# Altium integrated library Linear Technology Comparators.IntLib: 630 symbols (part 22 of 24)
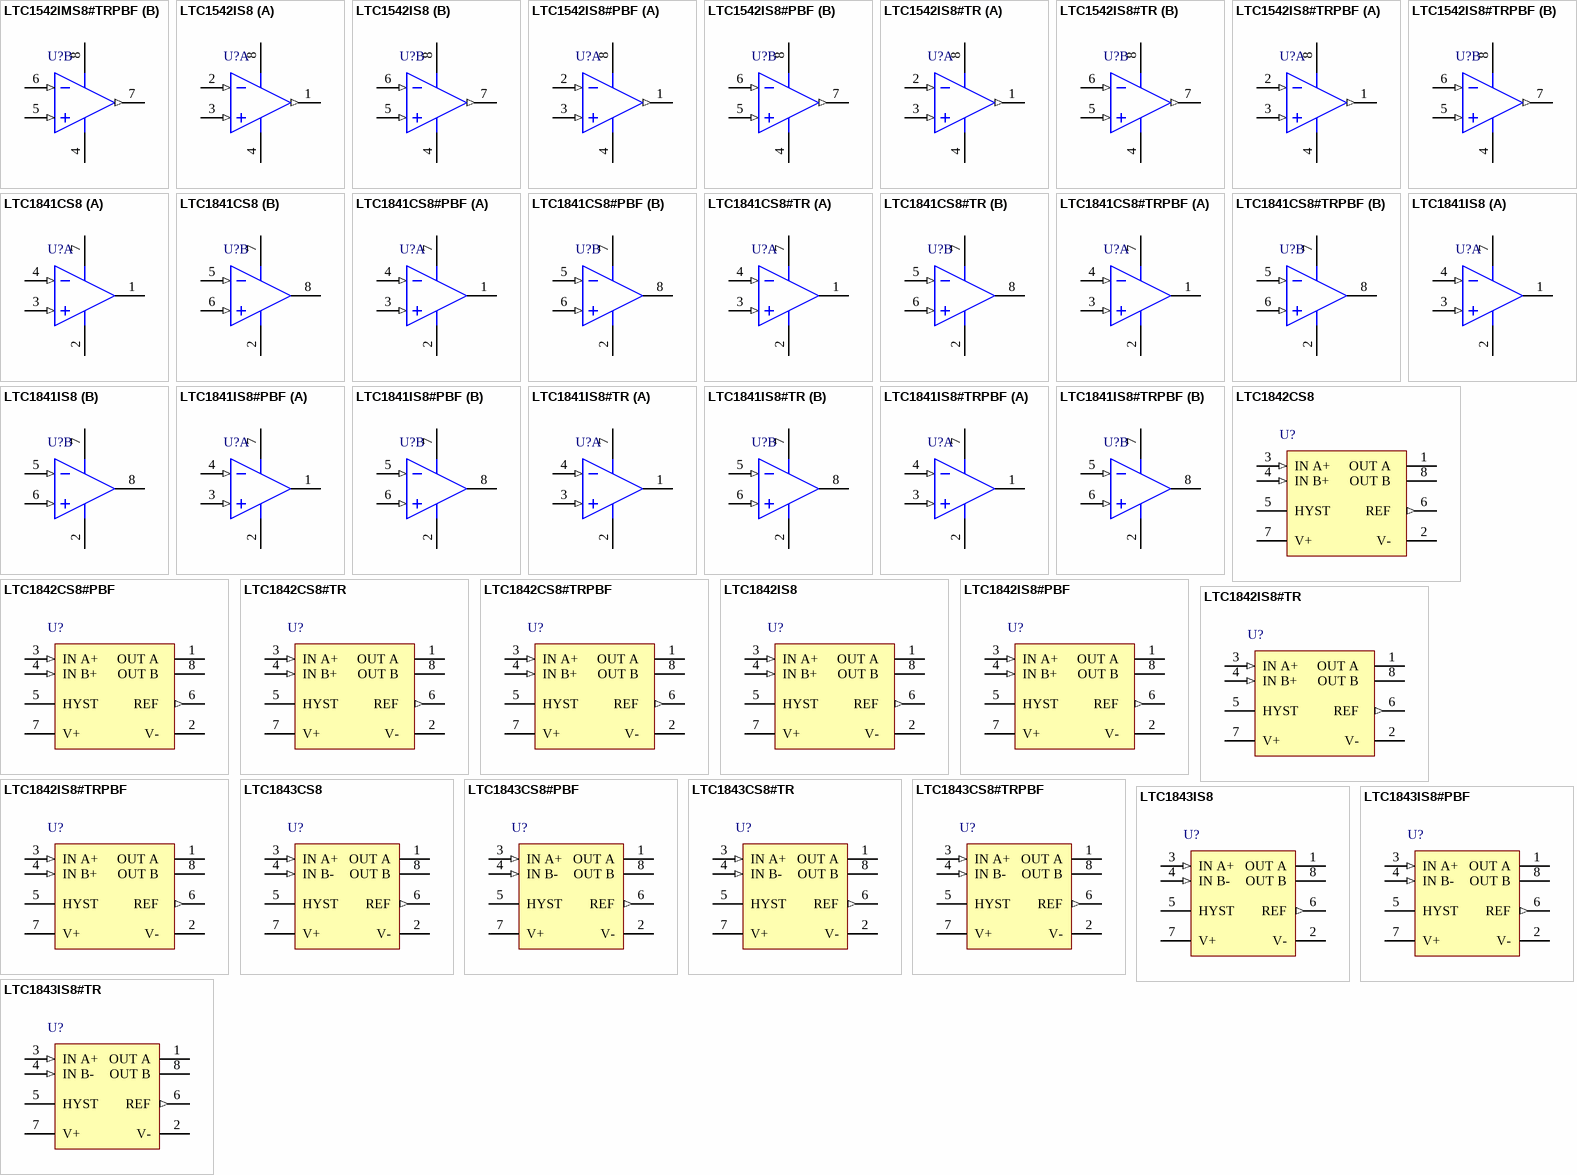
[diagram p45: symbols LTC1542IMS8#TRPBF to LTC1843IS8#TR]

## LTC1841CS8
designator U?
Ultralow Power Comparator with Reference, 2 Channels, 2 to 11 V, 0 to +70 degC, 8-pin SOP (S8); Generic Part Number: LTC1841; Manufacturer: Linear Technology; PartNumber: LTC1841CS8; Channels (#): 2; Prop Delay (us): 4; Supply Current (uA) Typical: 5.7; Supply Voltage Range: 2 to 11 V; Vos (mV) Guaranteed: 10; Vos (mV) Typical: 3; Vs Max (V): 12.6; Vs Min (V): 2.5; PackageReference: S8; PackageDescription: 8-Pin Plastic Small Outline (Narrow .150 Inch), Body 4.9 x 3.9 mm, Pitch 1.27 mm; Supplier 1: Digi-Key; Supplier Part Number 1: LTC1841CS8-ND; Features: Comparator; RoHS: N; Mounting Technology: Surface Mount; ComponentLink1Description: Manufacturer URL; ComponentLink1URL: http://www.linear.com/; ComponentLink2Description: Datasheet; ComponentLink2URL: http://cds.linear.com/docs/en/datasheet/184123f.pdf; ComponentLink3Description: Package Specification; ComponentLink3URL: http://cds.linear.com/docs/en/packaging/05081610_G_SO8.pdf
footprint LT-S8_N (SOP, 8-Leads, Body 4.9x3.9mm, Pitch 1.27mm, IPC Medium Density)
footprint LT-S8_L (SOP, 8-Leads, Body 4.9x3.9mm, Pitch 1.27mm, IPC High Density)
footprint LT-S8_M (SOP, 8-Leads, Body 4.9x3.9mm, Pitch 1.27mm, IPC Low Density)
pins on every part: 2 V- (power) "Negative Supply.", 7 V+ (power) "Positive Supply. 2V to 11V."
part A pins: 1 OUT A (oc) "Comparator A Open-Drain Output. Output can typically sink greater than 20mA.", 3 IN A+ (in) "Noninverting Input of Comparator A. Input common mode range extends from V - to V + - 1.3V. Input current is typically 10pA at 25degreesC.", 4 IN A- (in) "Inverting Input of Comparator A. Input common mode range extends from V - to V + - 1.3V. Input current is typically 10pA at 25degreesC."
part B pins: 5 IN B- (in) "Noninverting Input of Comparator B. Input common mode range extends from V - to V+ - 1.3V. Input current is typically 10pA at 25degreesC.", 6 IN B+ (in) "Inverting Input of Comparator B. Input common mode range extends from V - to V+ - 1.3V. Input current is typically 10pA at 25degreesC.", 8 OUT B (oc) "Comparator B Open-Drain Output. Output can typically sink greater than 20mA."

## LTC1841CS8#PBF
designator U?
Ultralow Power Comparator with Reference, 2 Channels, 2 to 11 V, 0 to +70 degC, 8-pin SOP (S8); Generic Part Number: LTC1841; Manufacturer: Linear Technology; PartNumber: LTC1841CS8#PBF; Channels (#): 2; Prop Delay (us): 4; Supply Current (uA) Typical: 5.7; Supply Voltage Range: 2 to 11 V; Vos (mV) Guaranteed: 10; Vos (mV) Typical: 3; Vs Max (V): 12.6; Vs Min (V): 2.5; PackageReference: S8; PackageDescription: 8-Pin Plastic Small Outline (Narrow .150 Inch), Body 4.9 x 3.9 mm, Pitch 1.27 mm; Supplier 1: Digi-Key; Supplier Part Number 1: LTC1841CS8#PBF-ND; Supplier 2: Newark; Supplier Part Number 2: 56M3882; Features: Comparator; RoHS: Y; Mounting Technology: Surface Mount; ComponentLink1Description: Manufacturer URL; ComponentLink1URL: http://www.linear.com/; ComponentLink2Description: Datasheet; ComponentLink2URL: http://cds.linear.com/docs/en/datasheet/184123f.pdf; ComponentLink3Description: Package Specification; ComponentLink3URL: http://cds.linear.com/docs/en/packaging/05081610_G_SO8.pdf
footprint LT-S8_N (SOP, 8-Leads, Body 4.9x3.9mm, Pitch 1.27mm, IPC Medium Density)
footprint LT-S8_L (SOP, 8-Leads, Body 4.9x3.9mm, Pitch 1.27mm, IPC High Density)
footprint LT-S8_M (SOP, 8-Leads, Body 4.9x3.9mm, Pitch 1.27mm, IPC Low Density)
pins on every part: 2 V- (power) "Negative Supply.", 7 V+ (power) "Positive Supply. 2V to 11V."
part A pins: 1 OUT A (oc) "Comparator A Open-Drain Output. Output can typically sink greater than 20mA.", 3 IN A+ (in) "Noninverting Input of Comparator A. Input common mode range extends from V - to V + - 1.3V. Input current is typically 10pA at 25degreesC.", 4 IN A- (in) "Inverting Input of Comparator A. Input common mode range extends from V - to V + - 1.3V. Input current is typically 10pA at 25degreesC."
part B pins: 5 IN B- (in) "Noninverting Input of Comparator B. Input common mode range extends from V - to V+ - 1.3V. Input current is typically 10pA at 25degreesC.", 6 IN B+ (in) "Inverting Input of Comparator B. Input common mode range extends from V - to V+ - 1.3V. Input current is typically 10pA at 25degreesC.", 8 OUT B (oc) "Comparator B Open-Drain Output. Output can typically sink greater than 20mA."

## LTC1841CS8#TR
designator U?
Ultralow Power Comparator with Reference, 2 Channels, 2 to 11 V, 0 to +70 degC, 8-pin SOP (S8), Tape and Reel; Generic Part Number: LTC1841; Manufacturer: Linear Technology; PartNumber: LTC1841CS8#TR; Channels (#): 2; Prop Delay (us): 4; Supply Current (uA) Typical: 5.7; Supply Voltage Range: 2 to 11 V; Vos (mV) Guaranteed: 10; Vos (mV) Typical: 3; Vs Max (V): 12.6; Vs Min (V): 2.5; PackageReference: S8; PackageDescription: 8-Pin Plastic Small Outline (Narrow .150 Inch), Body 4.9 x 3.9 mm, Pitch 1.27 mm; Supplier 1: Digi-Key; Supplier Part Number 1: LTC1841CS8#TR-ND; Features: Comparator; RoHS: N; Mounting Technology: Surface Mount; ComponentLink1Description: Manufacturer URL; ComponentLink1URL: http://www.linear.com/; ComponentLink2Description: Datasheet; ComponentLink2URL: http://cds.linear.com/docs/en/datasheet/184123f.pdf; ComponentLink3Description: Package Specification; ComponentLink3URL: http://cds.linear.com/docs/en/packaging/05081610_G_SO8.pdf
footprint LT-S8_N (SOP, 8-Leads, Body 4.9x3.9mm, Pitch 1.27mm, IPC Medium Density)
footprint LT-S8_L (SOP, 8-Leads, Body 4.9x3.9mm, Pitch 1.27mm, IPC High Density)
footprint LT-S8_M (SOP, 8-Leads, Body 4.9x3.9mm, Pitch 1.27mm, IPC Low Density)
pins on every part: 2 V- (power) "Negative Supply.", 7 V+ (power) "Positive Supply. 2V to 11V."
part A pins: 1 OUT A (oc) "Comparator A Open-Drain Output. Output can typically sink greater than 20mA.", 3 IN A+ (in) "Noninverting Input of Comparator A. Input common mode range extends from V - to V + - 1.3V. Input current is typically 10pA at 25degreesC.", 4 IN A- (in) "Inverting Input of Comparator A. Input common mode range extends from V - to V + - 1.3V. Input current is typically 10pA at 25degreesC."
part B pins: 5 IN B- (in) "Noninverting Input of Comparator B. Input common mode range extends from V - to V+ - 1.3V. Input current is typically 10pA at 25degreesC.", 6 IN B+ (in) "Inverting Input of Comparator B. Input common mode range extends from V - to V+ - 1.3V. Input current is typically 10pA at 25degreesC.", 8 OUT B (oc) "Comparator B Open-Drain Output. Output can typically sink greater than 20mA."

## LTC1841CS8#TRPBF
designator U?
Ultralow Power Comparator with Reference, 2 Channels, 2 to 11 V, 0 to +70 degC, 8-pin SOP (S8), Tape and Reel; Generic Part Number: LTC1841; Manufacturer: Linear Technology; PartNumber: LTC1841CS8#TRPBF; Channels (#): 2; Prop Delay (us): 4; Supply Current (uA) Typical: 5.7; Supply Voltage Range: 2 to 11 V; Vos (mV) Guaranteed: 10; Vos (mV) Typical: 3; Vs Max (V): 12.6; Vs Min (V): 2.5; PackageReference: S8; PackageDescription: 8-Pin Plastic Small Outline (Narrow .150 Inch), Body 4.9 x 3.9 mm, Pitch 1.27 mm; Supplier 1: Digi-Key; Supplier Part Number 1: LTC1841CS8#TRPBF-ND; Supplier 2: Newark; Supplier Part Number 2: 56M3884; Features: Comparator; RoHS: Y; Mounting Technology: Surface Mount; ComponentLink1Description: Manufacturer URL; ComponentLink1URL: http://www.linear.com/; ComponentLink2Description: Datasheet; ComponentLink2URL: http://cds.linear.com/docs/en/datasheet/184123f.pdf; ComponentLink3Description: Package Specification; ComponentLink3URL: http://cds.linear.com/docs/en/packaging/05081610_G_SO8.pdf
footprint LT-S8_N (SOP, 8-Leads, Body 4.9x3.9mm, Pitch 1.27mm, IPC Medium Density)
footprint LT-S8_L (SOP, 8-Leads, Body 4.9x3.9mm, Pitch 1.27mm, IPC High Density)
footprint LT-S8_M (SOP, 8-Leads, Body 4.9x3.9mm, Pitch 1.27mm, IPC Low Density)
pins on every part: 2 V- (power) "Negative Supply.", 7 V+ (power) "Positive Supply. 2V to 11V."
part A pins: 1 OUT A (oc) "Comparator A Open-Drain Output. Output can typically sink greater than 20mA.", 3 IN A+ (in) "Noninverting Input of Comparator A. Input common mode range extends from V - to V + - 1.3V. Input current is typically 10pA at 25degreesC.", 4 IN A- (in) "Inverting Input of Comparator A. Input common mode range extends from V - to V + - 1.3V. Input current is typically 10pA at 25degreesC."
part B pins: 5 IN B- (in) "Noninverting Input of Comparator B. Input common mode range extends from V - to V+ - 1.3V. Input current is typically 10pA at 25degreesC.", 6 IN B+ (in) "Inverting Input of Comparator B. Input common mode range extends from V - to V+ - 1.3V. Input current is typically 10pA at 25degreesC.", 8 OUT B (oc) "Comparator B Open-Drain Output. Output can typically sink greater than 20mA."

## LTC1841IS8
designator U?
Ultralow Power Comparator with Reference, 2 Channels, 2 to 11 V, -40 to +85 degC, 8-pin SOP (S8); Generic Part Number: LTC1841; Manufacturer: Linear Technology; PartNumber: LTC1841IS8; Channels (#): 2; Prop Delay (us): 4; Supply Current (uA) Guaranteed: 5.7; Supply Current (uA) Typical: 3.5; Supply Voltage Range: 2 to 11 V; Vos (mV) Guaranteed: 10; Vos (mV) Typical: 3; Vs Max (V): 12.6; Vs Min (V): 2.5; PackageReference: S8; PackageDescription: 8-Pin Plastic Small Outline (Narrow .150 Inch), Body 4.9 x 3.9 mm, Pitch 1.27 mm; Supplier 1: Digi-Key; Supplier Part Number 1: LTC1841IS8-ND; Features: Comparator; RoHS: N; Mounting Technology: Surface Mount; ComponentLink1Description: Manufacturer URL; ComponentLink1URL: http://www.linear.com/; ComponentLink2Description: Datasheet; ComponentLink2URL: http://cds.linear.com/docs/en/datasheet/184123f.pdf; ComponentLink3Description: Package Specification; ComponentLink3URL: http://cds.linear.com/docs/en/packaging/05081610_G_SO8.pdf
footprint LT-S8_N (SOP, 8-Leads, Body 4.9x3.9mm, Pitch 1.27mm, IPC Medium Density)
footprint LT-S8_L (SOP, 8-Leads, Body 4.9x3.9mm, Pitch 1.27mm, IPC High Density)
footprint LT-S8_M (SOP, 8-Leads, Body 4.9x3.9mm, Pitch 1.27mm, IPC Low Density)
pins on every part: 2 V- (power) "Negative Supply.", 7 V+ (power) "Positive Supply. 2V to 11V."
part A pins: 1 OUT A (oc) "Comparator A Open-Drain Output. Output can typically sink greater than 20mA.", 3 IN A+ (in) "Noninverting Input of Comparator A. Input common mode range extends from V - to V + - 1.3V. Input current is typically 10pA at 25degreesC.", 4 IN A- (in) "Inverting Input of Comparator A. Input common mode range extends from V - to V + - 1.3V. Input current is typically 10pA at 25degreesC."
part B pins: 5 IN B- (in) "Noninverting Input of Comparator B. Input common mode range extends from V - to V+ - 1.3V. Input current is typically 10pA at 25degreesC.", 6 IN B+ (in) "Inverting Input of Comparator B. Input common mode range extends from V - to V+ - 1.3V. Input current is typically 10pA at 25degreesC.", 8 OUT B (oc) "Comparator B Open-Drain Output. Output can typically sink greater than 20mA."

## LTC1841IS8#PBF
designator U?
Ultralow Power Comparator with Reference, 2 Channels, 2 to 11 V, -40 to +85 degC, 8-pin SOP (S8); Generic Part Number: LTC1841; Manufacturer: Linear Technology; PartNumber: LTC1841IS8#PBF; Channels (#): 2; Prop Delay (us): 4; Supply Current (uA) Guaranteed: 5.7; Supply Current (uA) Typical: 3.5; Supply Voltage Range: 2 to 11 V; Vos (mV) Guaranteed: 10; Vos (mV) Typical: 3; Vs Max (V): 12.6; Vs Min (V): 2.5; PackageReference: S8; PackageDescription: 8-Pin Plastic Small Outline (Narrow .150 Inch), Body 4.9 x 3.9 mm, Pitch 1.27 mm; Supplier 1: Digi-Key; Supplier Part Number 1: LTC1841IS8#PBF-ND; Supplier 2: Newark; Supplier Part Number 2: 56M3886; Features: Comparator; RoHS: Y; Mounting Technology: Surface Mount; ComponentLink1Description: Manufacturer URL; ComponentLink1URL: http://www.linear.com/; ComponentLink2Description: Datasheet; ComponentLink2URL: http://cds.linear.com/docs/en/datasheet/184123f.pdf; ComponentLink3Description: Package Specification; ComponentLink3URL: http://cds.linear.com/docs/en/packaging/05081610_G_SO8.pdf
footprint LT-S8_N (SOP, 8-Leads, Body 4.9x3.9mm, Pitch 1.27mm, IPC Medium Density)
footprint LT-S8_L (SOP, 8-Leads, Body 4.9x3.9mm, Pitch 1.27mm, IPC High Density)
footprint LT-S8_M (SOP, 8-Leads, Body 4.9x3.9mm, Pitch 1.27mm, IPC Low Density)
pins on every part: 2 V- (power) "Negative Supply.", 7 V+ (power) "Positive Supply. 2V to 11V."
part A pins: 1 OUT A (oc) "Comparator A Open-Drain Output. Output can typically sink greater than 20mA.", 3 IN A+ (in) "Noninverting Input of Comparator A. Input common mode range extends from V - to V + - 1.3V. Input current is typically 10pA at 25degreesC.", 4 IN A- (in) "Inverting Input of Comparator A. Input common mode range extends from V - to V + - 1.3V. Input current is typically 10pA at 25degreesC."
part B pins: 5 IN B- (in) "Noninverting Input of Comparator B. Input common mode range extends from V - to V+ - 1.3V. Input current is typically 10pA at 25degreesC.", 6 IN B+ (in) "Inverting Input of Comparator B. Input common mode range extends from V - to V+ - 1.3V. Input current is typically 10pA at 25degreesC.", 8 OUT B (oc) "Comparator B Open-Drain Output. Output can typically sink greater than 20mA."

## LTC1841IS8#TR
designator U?
Ultralow Power Comparator with Reference, 2 Channels, 2 to 11 V, -40 to +85 degC, 8-pin SOP (S8), Tape and Reel; Generic Part Number: LTC1841; Manufacturer: Linear Technology; PartNumber: LTC1841IS8#TR; Channels (#): 2; Prop Delay (us): 4; Supply Current (uA) Guaranteed: 5.7; Supply Current (uA) Typical: 3.5; Supply Voltage Range: 2 to 11 V; Vos (mV) Guaranteed: 10; Vos (mV) Typical: 3; Vs Max (V): 12.6; Vs Min (V): 2.5; PackageReference: S8; PackageDescription: 8-Pin Plastic Small Outline (Narrow .150 Inch), Body 4.9 x 3.9 mm, Pitch 1.27 mm; Supplier 1: Digi-Key; Supplier Part Number 1: LTC1841IS8#TR-ND; Features: Comparator; RoHS: N; Mounting Technology: Surface Mount; ComponentLink1Description: Manufacturer URL; ComponentLink1URL: http://www.linear.com/; ComponentLink2Description: Datasheet; ComponentLink2URL: http://cds.linear.com/docs/en/datasheet/184123f.pdf; ComponentLink3Description: Package Specification; ComponentLink3URL: http://cds.linear.com/docs/en/packaging/05081610_G_SO8.pdf
footprint LT-S8_N (SOP, 8-Leads, Body 4.9x3.9mm, Pitch 1.27mm, IPC Medium Density)
footprint LT-S8_L (SOP, 8-Leads, Body 4.9x3.9mm, Pitch 1.27mm, IPC High Density)
footprint LT-S8_M (SOP, 8-Leads, Body 4.9x3.9mm, Pitch 1.27mm, IPC Low Density)
pins on every part: 2 V- (power) "Negative Supply.", 7 V+ (power) "Positive Supply. 2V to 11V."
part A pins: 1 OUT A (oc) "Comparator A Open-Drain Output. Output can typically sink greater than 20mA.", 3 IN A+ (in) "Noninverting Input of Comparator A. Input common mode range extends from V - to V + - 1.3V. Input current is typically 10pA at 25degreesC.", 4 IN A- (in) "Inverting Input of Comparator A. Input common mode range extends from V - to V + - 1.3V. Input current is typically 10pA at 25degreesC."
part B pins: 5 IN B- (in) "Noninverting Input of Comparator B. Input common mode range extends from V - to V+ - 1.3V. Input current is typically 10pA at 25degreesC.", 6 IN B+ (in) "Inverting Input of Comparator B. Input common mode range extends from V - to V+ - 1.3V. Input current is typically 10pA at 25degreesC.", 8 OUT B (oc) "Comparator B Open-Drain Output. Output can typically sink greater than 20mA."

## LTC1841IS8#TRPBF
designator U?
Ultralow Power Comparator with Reference, 2 Channels, 2 to 11 V, -40 to +85 degC, 8-pin SOP (S8), Tape and Reel; Generic Part Number: LTC1841; Manufacturer: Linear Technology; PartNumber: LTC1841IS8#TRPBF; Channels (#): 2; Prop Delay (us): 4; Supply Current (uA) Guaranteed: 5.7; Supply Current (uA) Typical: 3.5; Supply Voltage Range: 2 to 11 V; Vos (mV) Guaranteed: 10; Vos (mV) Typical: 3; Vs Max (V): 12.6; Vs Min (V): 2.5; PackageReference: S8; PackageDescription: 8-Pin Plastic Small Outline (Narrow .150 Inch), Body 4.9 x 3.9 mm, Pitch 1.27 mm; Supplier 1: Digi-Key; Supplier Part Number 1: LTC1841IS8#TRPBF-ND; Supplier 2: Newark; Supplier Part Number 2: 56M3888; Features: Comparator; RoHS: Y; Mounting Technology: Surface Mount; ComponentLink1Description: Manufacturer URL; ComponentLink1URL: http://www.linear.com/; ComponentLink2Description: Datasheet; ComponentLink2URL: http://cds.linear.com/docs/en/datasheet/184123f.pdf; ComponentLink3Description: Package Specification; ComponentLink3URL: http://cds.linear.com/docs/en/packaging/05081610_G_SO8.pdf
footprint LT-S8_N (SOP, 8-Leads, Body 4.9x3.9mm, Pitch 1.27mm, IPC Medium Density)
footprint LT-S8_L (SOP, 8-Leads, Body 4.9x3.9mm, Pitch 1.27mm, IPC High Density)
footprint LT-S8_M (SOP, 8-Leads, Body 4.9x3.9mm, Pitch 1.27mm, IPC Low Density)
pins on every part: 2 V- (power) "Negative Supply.", 7 V+ (power) "Positive Supply. 2V to 11V."
part A pins: 1 OUT A (oc) "Comparator A Open-Drain Output. Output can typically sink greater than 20mA.", 3 IN A+ (in) "Noninverting Input of Comparator A. Input common mode range extends from V - to V + - 1.3V. Input current is typically 10pA at 25degreesC.", 4 IN A- (in) "Inverting Input of Comparator A. Input common mode range extends from V - to V + - 1.3V. Input current is typically 10pA at 25degreesC."
part B pins: 5 IN B- (in) "Noninverting Input of Comparator B. Input common mode range extends from V - to V+ - 1.3V. Input current is typically 10pA at 25degreesC.", 6 IN B+ (in) "Inverting Input of Comparator B. Input common mode range extends from V - to V+ - 1.3V. Input current is typically 10pA at 25degreesC.", 8 OUT B (oc) "Comparator B Open-Drain Output. Output can typically sink greater than 20mA."

## LTC1842CS8
designator U?
Ultralow Power Comparator with Reference, 2 Channels, 2.5 to 11 V, 0 to +70 degC, 8-pin SOP (S8); Generic Part Number: LTC1842; Manufacturer: Linear Technology; PartNumber: LTC1842CS8; Channels (#): 2; Prop Delay (us): 4; Supply Current (uA) Guaranteed: 5.7; Supply Current (uA) Typical: 3.5; Vos (mV) Guaranteed: 10; Vos (mV) Typical: 3; Vs Max (V): 11; PackageReference: S8; PackageDescription: 8-Pin Plastic Small Outline (Narrow .150 Inch), Body 4.9 x 3.9 mm, Pitch 1.27 mm; Supplier 1: Digi-Key; Supplier Part Number 1: LTC1842CS8-ND; Features: Reference, Comparator; RoHS: N; Supply Voltage Range: 2.5 to 11 V; Vs Min (V): 2; Mounting Technology: Surface Mount; ComponentLink1Description: Manufacturer URL; ComponentLink1URL: http://www.linear.com/; ComponentLink2Description: Datasheet; ComponentLink2URL: http://cds.linear.com/docs/en/datasheet/184123f.pdf; ComponentLink3Description: Package Specification; ComponentLink3URL: http://cds.linear.com/docs/en/packaging/05081610_G_SO8.pdf
footprint LT-S8_N (SOP, 8-Leads, Body 4.9x3.9mm, Pitch 1.27mm, IPC Medium Density)
footprint LT-S8_L (SOP, 8-Leads, Body 4.9x3.9mm, Pitch 1.27mm, IPC High Density)
footprint LT-S8_M (SOP, 8-Leads, Body 4.9x3.9mm, Pitch 1.27mm, IPC Low Density)
pins: 1 OUT A   (oc) "Comparator A Open-Drain Output. Output can typically sink greater than 20mA.", 2  V-   (power) "Negative Supply.", 3 IN A+   (in) "Noninverting Input of Comparator A. Input common mode range extends from V - to V + - 1.3V. Input current is typically 10pA at 25degreesC.", 4 IN B+   (in) "Noninverting Input of Comparator B. Input common mode range extends from V - to V+ - 1.3V. Input current is typically 10pA at 25degreesC.", 5 HYST   "Hysteresis Input. Connect to REF if not used. Input voltage range is from VREF to VREF - 50mV.", 6 REF   (out) "Reference Output. 1.182V with respect to V -. Can typically source greater than 1mA and sink 10mA at 25degreesC. Can drive 0.01mF bypass capacitor without oscillation.", 7 V+   (power) "Positive Supply. 2.5V to 11V.", 8 OUT B   (oc) "Comparator B Open-Drain Output. Output can typically sink greater than 20mA."

## LTC1842CS8#PBF
designator U?
Ultralow Power Comparator with Reference, 2 Channels, 2.5 to 11 V, 0 to +70 degC, 8-pin SOP (S8); Generic Part Number: LTC1842; Manufacturer: Linear Technology; PartNumber: LTC1842CS8#PBF; Channels (#): 2; Prop Delay (us): 4; Supply Current (uA) Guaranteed: 5.7; Supply Current (uA) Typical: 3.5; Vos (mV) Guaranteed: 10; Vos (mV) Typical: 3; Vs Max (V): 11; PackageReference: S8; PackageDescription: 8-Pin Plastic Small Outline (Narrow .150 Inch), Body 4.9 x 3.9 mm, Pitch 1.27 mm; Supplier 1: Digi-Key; Supplier Part Number 1: LTC1842CS8#PBF-ND; Supplier 2: Newark; Supplier Part Number 2: 56M3890; Features: Reference, Comparator; RoHS: Y; Supply Voltage Range: 2.5 to 11 V; Vs Min (V): 2; Mounting Technology: Surface Mount; ComponentLink1Description: Manufacturer URL; ComponentLink1URL: http://www.linear.com/; ComponentLink2Description: Datasheet; ComponentLink2URL: http://cds.linear.com/docs/en/datasheet/184123f.pdf; ComponentLink3Description: Package Specification; ComponentLink3URL: http://cds.linear.com/docs/en/packaging/05081610_G_SO8.pdf
footprint LT-S8_N (SOP, 8-Leads, Body 4.9x3.9mm, Pitch 1.27mm, IPC Medium Density)
footprint LT-S8_L (SOP, 8-Leads, Body 4.9x3.9mm, Pitch 1.27mm, IPC High Density)
footprint LT-S8_M (SOP, 8-Leads, Body 4.9x3.9mm, Pitch 1.27mm, IPC Low Density)
pins: 1 OUT A   (oc) "Comparator A Open-Drain Output. Output can typically sink greater than 20mA.", 2  V-   (power) "Negative Supply.", 3 IN A+   (in) "Noninverting Input of Comparator A. Input common mode range extends from V - to V + - 1.3V. Input current is typically 10pA at 25degreesC.", 4 IN B+   (in) "Noninverting Input of Comparator B. Input common mode range extends from V - to V+ - 1.3V. Input current is typically 10pA at 25degreesC.", 5 HYST   "Hysteresis Input. Connect to REF if not used. Input voltage range is from VREF to VREF - 50mV.", 6 REF   (out) "Reference Output. 1.182V with respect to V -. Can typically source greater than 1mA and sink 10mA at 25degreesC. Can drive 0.01mF bypass capacitor without oscillation.", 7 V+   (power) "Positive Supply. 2.5V to 11V.", 8 OUT B   (oc) "Comparator B Open-Drain Output. Output can typically sink greater than 20mA."

## LTC1842CS8#TR
designator U?
Ultralow Power Comparator with Reference, 2 Channels, 2.5 to 11 V, 0 to +70 degC, 8-pin SOP (S8), Tape and Reel; Generic Part Number: LTC1842; Manufacturer: Linear Technology; PartNumber: LTC1842CS8#TR; Channels (#): 2; Prop Delay (us): 4; Supply Current (uA) Guaranteed: 5.7; Supply Current (uA) Typical: 3.5; Vos (mV) Guaranteed: 10; Vos (mV) Typical: 3; Vs Max (V): 11; PackageReference: S8; PackageDescription: 8-Pin Plastic Small Outline (Narrow .150 Inch), Body 4.9 x 3.9 mm, Pitch 1.27 mm; Supplier 1: Digi-Key; Supplier Part Number 1: LTC1842CS8#TR-ND; Features: Reference, Comparator; RoHS: N; Supply Voltage Range: 2.5 to 11 V; Vs Min (V): 2; Mounting Technology: Surface Mount; ComponentLink1Description: Manufacturer URL; ComponentLink1URL: http://www.linear.com/; ComponentLink2Description: Datasheet; ComponentLink2URL: http://cds.linear.com/docs/en/datasheet/184123f.pdf; ComponentLink3Description: Package Specification; ComponentLink3URL: http://cds.linear.com/docs/en/packaging/05081610_G_SO8.pdf
footprint LT-S8_N (SOP, 8-Leads, Body 4.9x3.9mm, Pitch 1.27mm, IPC Medium Density)
footprint LT-S8_L (SOP, 8-Leads, Body 4.9x3.9mm, Pitch 1.27mm, IPC High Density)
footprint LT-S8_M (SOP, 8-Leads, Body 4.9x3.9mm, Pitch 1.27mm, IPC Low Density)
pins: 1 OUT A   (oc) "Comparator A Open-Drain Output. Output can typically sink greater than 20mA.", 2  V-   (power) "Negative Supply.", 3 IN A+   (in) "Noninverting Input of Comparator A. Input common mode range extends from V - to V + - 1.3V. Input current is typically 10pA at 25degreesC.", 4 IN B+   (in) "Noninverting Input of Comparator B. Input common mode range extends from V - to V+ - 1.3V. Input current is typically 10pA at 25degreesC.", 5 HYST   "Hysteresis Input. Connect to REF if not used. Input voltage range is from VREF to VREF - 50mV.", 6 REF   (out) "Reference Output. 1.182V with respect to V -. Can typically source greater than 1mA and sink 10mA at 25degreesC. Can drive 0.01mF bypass capacitor without oscillation.", 7 V+   (power) "Positive Supply. 2.5V to 11V.", 8 OUT B   (oc) "Comparator B Open-Drain Output. Output can typically sink greater than 20mA."

## LTC1842CS8#TRPBF
designator U?
Ultralow Power Comparator with Reference, 2 Channels, 2.5 to 11 V, 0 to +70 degC, 8-pin SOP (S8), Tape and Reel; Generic Part Number: LTC1842; Manufacturer: Linear Technology; PartNumber: LTC1842CS8#TRPBF; Channels (#): 2; Prop Delay (us): 4; Supply Current (uA) Guaranteed: 5.7; Supply Current (uA) Typical: 3.5; Vos (mV) Guaranteed: 10; Vos (mV) Typical: 3; Vs Max (V): 11; PackageReference: S8; PackageDescription: 8-Pin Plastic Small Outline (Narrow .150 Inch), Body 4.9 x 3.9 mm, Pitch 1.27 mm; Supplier 1: Digi-Key; Supplier Part Number 1: LTC1842CS8#TRPBF-ND; Features: Reference, Comparator; RoHS: Y; Supply Voltage Range: 2.5 to 11 V; Vs Min (V): 2; Mounting Technology: Surface Mount; ComponentLink1Description: Manufacturer URL; ComponentLink1URL: http://www.linear.com/; ComponentLink2Description: Datasheet; ComponentLink2URL: http://cds.linear.com/docs/en/datasheet/184123f.pdf; ComponentLink3Description: Package Specification; ComponentLink3URL: http://cds.linear.com/docs/en/packaging/05081610_G_SO8.pdf
footprint LT-S8_N (SOP, 8-Leads, Body 4.9x3.9mm, Pitch 1.27mm, IPC Medium Density)
footprint LT-S8_L (SOP, 8-Leads, Body 4.9x3.9mm, Pitch 1.27mm, IPC High Density)
footprint LT-S8_M (SOP, 8-Leads, Body 4.9x3.9mm, Pitch 1.27mm, IPC Low Density)
pins: 1 OUT A   (oc) "Comparator A Open-Drain Output. Output can typically sink greater than 20mA.", 2  V-   (power) "Negative Supply.", 3 IN A+   (in) "Noninverting Input of Comparator A. Input common mode range extends from V - to V + - 1.3V. Input current is typically 10pA at 25degreesC.", 4 IN B+   (in) "Noninverting Input of Comparator B. Input common mode range extends from V - to V+ - 1.3V. Input current is typically 10pA at 25degreesC.", 5 HYST   "Hysteresis Input. Connect to REF if not used. Input voltage range is from VREF to VREF - 50mV.", 6 REF   (out) "Reference Output. 1.182V with respect to V -. Can typically source greater than 1mA and sink 10mA at 25degreesC. Can drive 0.01mF bypass capacitor without oscillation.", 7 V+   (power) "Positive Supply. 2.5V to 11V.", 8 OUT B   (oc) "Comparator B Open-Drain Output. Output can typically sink greater than 20mA."

## LTC1842IS8
designator U?
Ultralow Power Comparator with Reference, 2 Channels, 2.5 to 11 V, -40 to +85 degC, 8-pin SOP (S8); Generic Part Number: LTC1842; Manufacturer: Linear Technology; PartNumber: LTC1842IS8; Channels (#): 2; Prop Delay (us): 4; Supply Current (uA) Guaranteed: 5.7; Supply Current (uA) Typical: 3.5; Vos (mV) Guaranteed: 10; Vos (mV) Typical: 3; Vs Max (V): 11; PackageReference: S8; PackageDescription: 8-Pin Plastic Small Outline (Narrow .150 Inch), Body 4.9 x 3.9 mm, Pitch 1.27 mm; Supplier 1: Digi-Key; Supplier Part Number 1: LTC1842IS8-ND; Features: Reference, Comparator; RoHS: N; Supply Voltage Range: 2.5 to 11 V; Vs Min (V): 2; Mounting Technology: Surface Mount; ComponentLink1Description: Manufacturer URL; ComponentLink1URL: http://www.linear.com/; ComponentLink2Description: Datasheet; ComponentLink2URL: http://cds.linear.com/docs/en/datasheet/184123f.pdf; ComponentLink3Description: Package Specification; ComponentLink3URL: http://cds.linear.com/docs/en/packaging/05081610_G_SO8.pdf
footprint LT-S8_N (SOP, 8-Leads, Body 4.9x3.9mm, Pitch 1.27mm, IPC Medium Density)
footprint LT-S8_L (SOP, 8-Leads, Body 4.9x3.9mm, Pitch 1.27mm, IPC High Density)
footprint LT-S8_M (SOP, 8-Leads, Body 4.9x3.9mm, Pitch 1.27mm, IPC Low Density)
pins: 1 OUT A   (oc) "Comparator A Open-Drain Output. Output can typically sink greater than 20mA.", 2  V-   (power) "Negative Supply.", 3 IN A+   (in) "Noninverting Input of Comparator A. Input common mode range extends from V - to V + - 1.3V. Input current is typically 10pA at 25degreesC.", 4 IN B+   (in) "Noninverting Input of Comparator B. Input common mode range extends from V - to V+ - 1.3V. Input current is typically 10pA at 25degreesC.", 5 HYST   "Hysteresis Input. Connect to REF if not used. Input voltage range is from VREF to VREF - 50mV.", 6 REF   (out) "Reference Output. 1.182V with respect to V -. Can typically source greater than 1mA and sink 10mA at 25degreesC. Can drive 0.01mF bypass capacitor without oscillation.", 7 V+   (power) "Positive Supply. 2.5V to 11V.", 8 OUT B   (oc) "Comparator B Open-Drain Output. Output can typically sink greater than 20mA."

## LTC1842IS8#PBF
designator U?
Ultralow Power Comparator with Reference, 2 Channels, 2.5 to 11 V, -40 to +85 degC, 8-pin SOP (S8); Generic Part Number: LTC1842; Manufacturer: Linear Technology; PartNumber: LTC1842IS8#PBF; Channels (#): 2; Prop Delay (us): 4; Supply Current (uA) Guaranteed: 5.7; Supply Current (uA) Typical: 3.5; Vos (mV) Guaranteed: 10; Vos (mV) Typical: 3; Vs Max (V): 11; PackageReference: S8; PackageDescription: 8-Pin Plastic Small Outline (Narrow .150 Inch), Body 4.9 x 3.9 mm, Pitch 1.27 mm; Supplier 1: Digi-Key; Supplier Part Number 1: LTC1842IS8#PBF-ND; Supplier 2: Farnell; Supplier Part Number 2: 2294790; Supplier 3: Newark; Supplier Part Number 3: 56M3894; Features: Reference, Comparator; RoHS: Y; Supply Voltage Range: 2.5 to 11 V; Vs Min (V): 2; Mounting Technology: Surface Mount; ComponentLink1Description: Manufacturer URL; ComponentLink1URL: http://www.linear.com/; ComponentLink2Description: Datasheet; ComponentLink2URL: http://cds.linear.com/docs/en/datasheet/184123f.pdf; ComponentLink3Description: Package Specification; ComponentLink3URL: http://cds.linear.com/docs/en/packaging/05081610_G_SO8.pdf
footprint LT-S8_N (SOP, 8-Leads, Body 4.9x3.9mm, Pitch 1.27mm, IPC Medium Density)
footprint LT-S8_L (SOP, 8-Leads, Body 4.9x3.9mm, Pitch 1.27mm, IPC High Density)
footprint LT-S8_M (SOP, 8-Leads, Body 4.9x3.9mm, Pitch 1.27mm, IPC Low Density)
pins: 1 OUT A   (oc) "Comparator A Open-Drain Output. Output can typically sink greater than 20mA.", 2  V-   (power) "Negative Supply.", 3 IN A+   (in) "Noninverting Input of Comparator A. Input common mode range extends from V - to V + - 1.3V. Input current is typically 10pA at 25degreesC.", 4 IN B+   (in) "Noninverting Input of Comparator B. Input common mode range extends from V - to V+ - 1.3V. Input current is typically 10pA at 25degreesC.", 5 HYST   "Hysteresis Input. Connect to REF if not used. Input voltage range is from VREF to VREF - 50mV.", 6 REF   (out) "Reference Output. 1.182V with respect to V -. Can typically source greater than 1mA and sink 10mA at 25degreesC. Can drive 0.01mF bypass capacitor without oscillation.", 7 V+   (power) "Positive Supply. 2.5V to 11V.", 8 OUT B   (oc) "Comparator B Open-Drain Output. Output can typically sink greater than 20mA."

## LTC1842IS8#TR
designator U?
Ultralow Power Comparator with Reference, 2 Channels, 2.5 to 11 V, -40 to +85 degC, 8-pin SOP (S8), Tape and Reel; Generic Part Number: LTC1842; Manufacturer: Linear Technology; PartNumber: LTC1842IS8#TR; Channels (#): 2; Prop Delay (us): 4; Supply Current (uA) Guaranteed: 5.7; Supply Current (uA) Typical: 3.5; Vos (mV) Guaranteed: 10; Vos (mV) Typical: 3; Vs Max (V): 11; PackageReference: S8; PackageDescription: 8-Pin Plastic Small Outline (Narrow .150 Inch), Body 4.9 x 3.9 mm, Pitch 1.27 mm; Supplier 1: Digi-Key; Supplier Part Number 1: LTC1842IS8#TR-ND; Features: Reference, Comparator; RoHS: N; Supply Voltage Range: 2.5 to 11 V; Vs Min (V): 2; Mounting Technology: Surface Mount; ComponentLink1Description: Manufacturer URL; ComponentLink1URL: http://www.linear.com/; ComponentLink2Description: Datasheet; ComponentLink2URL: http://cds.linear.com/docs/en/datasheet/184123f.pdf; ComponentLink3Description: Package Specification; ComponentLink3URL: http://cds.linear.com/docs/en/packaging/05081610_G_SO8.pdf
footprint LT-S8_N (SOP, 8-Leads, Body 4.9x3.9mm, Pitch 1.27mm, IPC Medium Density)
footprint LT-S8_L (SOP, 8-Leads, Body 4.9x3.9mm, Pitch 1.27mm, IPC High Density)
footprint LT-S8_M (SOP, 8-Leads, Body 4.9x3.9mm, Pitch 1.27mm, IPC Low Density)
pins: 1 OUT A   (oc) "Comparator A Open-Drain Output. Output can typically sink greater than 20mA.", 2  V-   (power) "Negative Supply.", 3 IN A+   (in) "Noninverting Input of Comparator A. Input common mode range extends from V - to V + - 1.3V. Input current is typically 10pA at 25degreesC.", 4 IN B+   (in) "Noninverting Input of Comparator B. Input common mode range extends from V - to V+ - 1.3V. Input current is typically 10pA at 25degreesC.", 5 HYST   "Hysteresis Input. Connect to REF if not used. Input voltage range is from VREF to VREF - 50mV.", 6 REF   (out) "Reference Output. 1.182V with respect to V -. Can typically source greater than 1mA and sink 10mA at 25degreesC. Can drive 0.01mF bypass capacitor without oscillation.", 7 V+   (power) "Positive Supply. 2.5V to 11V.", 8 OUT B   (oc) "Comparator B Open-Drain Output. Output can typically sink greater than 20mA."

## LTC1842IS8#TRPBF
designator U?
Ultralow Power Comparator with Reference, 2 Channels, 2.5 to 11 V, -40 to +85 degC, 8-pin SOP (S8), Tape and Reel; Generic Part Number: LTC1842; Manufacturer: Linear Technology; PartNumber: LTC1842IS8#TRPBF; Channels (#): 2; Prop Delay (us): 4; Supply Current (uA) Guaranteed: 5.7; Supply Current (uA) Typical: 3.5; Vos (mV) Guaranteed: 10; Vos (mV) Typical: 3; Vs Max (V): 11; PackageReference: S8; PackageDescription: 8-Pin Plastic Small Outline (Narrow .150 Inch), Body 4.9 x 3.9 mm, Pitch 1.27 mm; Supplier 1: Digi-Key; Supplier Part Number 1: LTC1842IS8#TRPBF-ND; Supplier 2: Newark; Supplier Part Number 2: 56M3896; Features: Reference, Comparator; RoHS: Y; Supply Voltage Range: 2.5 to 11 V; Vs Min (V): 2; Mounting Technology: Surface Mount; ComponentLink1Description: Manufacturer URL; ComponentLink1URL: http://www.linear.com/; ComponentLink2Description: Datasheet; ComponentLink2URL: http://cds.linear.com/docs/en/datasheet/184123f.pdf; ComponentLink3Description: Package Specification; ComponentLink3URL: http://cds.linear.com/docs/en/packaging/05081610_G_SO8.pdf
footprint LT-S8_N (SOP, 8-Leads, Body 4.9x3.9mm, Pitch 1.27mm, IPC Medium Density)
footprint LT-S8_L (SOP, 8-Leads, Body 4.9x3.9mm, Pitch 1.27mm, IPC High Density)
footprint LT-S8_M (SOP, 8-Leads, Body 4.9x3.9mm, Pitch 1.27mm, IPC Low Density)
pins: 1 OUT A   (oc) "Comparator A Open-Drain Output. Output can typically sink greater than 20mA.", 2  V-   (power) "Negative Supply.", 3 IN A+   (in) "Noninverting Input of Comparator A. Input common mode range extends from V - to V + - 1.3V. Input current is typically 10pA at 25degreesC.", 4 IN B+   (in) "Noninverting Input of Comparator B. Input common mode range extends from V - to V+ - 1.3V. Input current is typically 10pA at 25degreesC.", 5 HYST   "Hysteresis Input. Connect to REF if not used. Input voltage range is from VREF to VREF - 50mV.", 6 REF   (out) "Reference Output. 1.182V with respect to V -. Can typically source greater than 1mA and sink 10mA at 25degreesC. Can drive 0.01mF bypass capacitor without oscillation.", 7 V+   (power) "Positive Supply. 2.5V to 11V.", 8 OUT B   (oc) "Comparator B Open-Drain Output. Output can typically sink greater than 20mA."

## LTC1843CS8
designator U?
Ultralow Power Comparator with Reference, 2 Channels, 2.5 to 11 V, 0 to +70 degC, 8-pin SOP (S8); Generic Part Number: LTC1843; Manufacturer: Linear Technology; PartNumber: LTC1843CS8; Channels (#): 2; Prop Delay (us): 4; Supply Current (uA) Guaranteed: 5.7; Supply Current (uA) Typical: 3.5; Vos (mV) Guaranteed: 10; Vos (mV) Typical: 3; Vs Max (V): 11; PackageReference: S8; PackageDescription: 8-Pin Plastic Small Outline (Narrow .150 Inch), Body 4.9 x 3.9 mm, Pitch 1.27 mm; Supplier 1: Digi-Key; Supplier Part Number 1: LTC1843CS8-ND; Features: Reference, Comparator; RoHS: N; Supply Voltage Range: 2.5 to 11 V; Vs Min (V): 2; Mounting Technology: Surface Mount; ComponentLink1Description: Manufacturer URL; ComponentLink1URL: http://www.linear.com/; ComponentLink2Description: Datasheet; ComponentLink2URL: http://cds.linear.com/docs/en/datasheet/184123f.pdf; ComponentLink3Description: Package Specification; ComponentLink3URL: http://cds.linear.com/docs/en/packaging/05081610_G_SO8.pdf
footprint LT-S8_N (SOP, 8-Leads, Body 4.9x3.9mm, Pitch 1.27mm, IPC Medium Density)
footprint LT-S8_L (SOP, 8-Leads, Body 4.9x3.9mm, Pitch 1.27mm, IPC High Density)
footprint LT-S8_M (SOP, 8-Leads, Body 4.9x3.9mm, Pitch 1.27mm, IPC Low Density)
pins: 1 OUT A (oc) "Comparator A Open-Drain Output. Output can typically sink greater than 20mA.", 2 V- (power) "Negative Supply.", 3 IN A+ (in) "Noninverting Input of Comparator A. Input common mode range extends from V - to V + - 1.3V. Input current is typically 10pA at 25degreesC.", 4 IN B- (in) "Inverting Input of Comparator B. Input common mode range extends from V - to V + - 1.3V. Input current is typically 10pA at 25degreesC.", 5 HYST "Hysteresis Input. Connect to REF if not used. Input voltage range is from VREF to VREF - 50mV.", 6 REF (out) "Reference Output. 1.182V with respect to V -. Can typically source greater than 1mA and sink 10mA at 25degreesC. Can drive 0.01mF bypass capacitor without oscillation.", 7 V+ (power) "Positive Supply. 2.5V to 11V.", 8 OUT B (oc) "Comparator B Open-Drain Output. Output can typically sink greater than 20mA."

## LTC1843CS8#PBF
designator U?
Ultralow Power Comparator with Reference, 2 Channels, 2.5 to 11 V, 0 to +70 degC, 8-pin SOP (S8); Generic Part Number: LTC1843; Manufacturer: Linear Technology; PartNumber: LTC1843CS8#PBF; Channels (#): 2; Prop Delay (us): 4; Supply Current (uA) Guaranteed: 5.7; Supply Current (uA) Typical: 3.5; Vos (mV) Guaranteed: 10; Vos (mV) Typical: 3; Vs Max (V): 11; PackageReference: S8; PackageDescription: 8-Pin Plastic Small Outline (Narrow .150 Inch), Body 4.9 x 3.9 mm, Pitch 1.27 mm; Supplier 1: Digi-Key; Supplier Part Number 1: LTC1843CS8#PBF-ND; Supplier 2: Newark; Supplier Part Number 2: 56M3898; Features: Reference, Comparator; RoHS: Y; Supply Voltage Range: 2.5 to 11 V; Vs Min (V): 2; Mounting Technology: Surface Mount; ComponentLink1Description: Manufacturer URL; ComponentLink1URL: http://www.linear.com/; ComponentLink2Description: Datasheet; ComponentLink2URL: http://cds.linear.com/docs/en/datasheet/184123f.pdf; ComponentLink3Description: Package Specification; ComponentLink3URL: http://cds.linear.com/docs/en/packaging/05081610_G_SO8.pdf
footprint LT-S8_N (SOP, 8-Leads, Body 4.9x3.9mm, Pitch 1.27mm, IPC Medium Density)
footprint LT-S8_L (SOP, 8-Leads, Body 4.9x3.9mm, Pitch 1.27mm, IPC High Density)
footprint LT-S8_M (SOP, 8-Leads, Body 4.9x3.9mm, Pitch 1.27mm, IPC Low Density)
pins: 1 OUT A (oc) "Comparator A Open-Drain Output. Output can typically sink greater than 20mA.", 2 V- (power) "Negative Supply.", 3 IN A+ (in) "Noninverting Input of Comparator A. Input common mode range extends from V - to V + - 1.3V. Input current is typically 10pA at 25degreesC.", 4 IN B- (in) "Inverting Input of Comparator B. Input common mode range extends from V - to V + - 1.3V. Input current is typically 10pA at 25degreesC.", 5 HYST "Hysteresis Input. Connect to REF if not used. Input voltage range is from VREF to VREF - 50mV.", 6 REF (out) "Reference Output. 1.182V with respect to V -. Can typically source greater than 1mA and sink 10mA at 25degreesC. Can drive 0.01mF bypass capacitor without oscillation.", 7 V+ (power) "Positive Supply. 2.5V to 11V.", 8 OUT B (oc) "Comparator B Open-Drain Output. Output can typically sink greater than 20mA."

## LTC1843CS8#TR
designator U?
Ultralow Power Comparator with Reference, 2 Channels, 2.5 to 11 V, 0 to +70 degC, 8-pin SOP (S8), Tape and Reel; Generic Part Number: LTC1843; Manufacturer: Linear Technology; PartNumber: LTC1843CS8#TR; Channels (#): 2; Prop Delay (us): 4; Supply Current (uA) Guaranteed: 5.7; Supply Current (uA) Typical: 3.5; Vos (mV) Guaranteed: 10; Vos (mV) Typical: 3; Vs Max (V): 11; PackageReference: S8; PackageDescription: 8-Pin Plastic Small Outline (Narrow .150 Inch), Body 4.9 x 3.9 mm, Pitch 1.27 mm; Supplier 1: Digi-Key; Supplier Part Number 1: LTC1843CS8#TR-ND; Features: Reference, Comparator; RoHS: N; Supply Voltage Range: 2.5 to 11 V; Vs Min (V): 2; Mounting Technology: Surface Mount; ComponentLink1Description: Manufacturer URL; ComponentLink1URL: http://www.linear.com/; ComponentLink2Description: Datasheet; ComponentLink2URL: http://cds.linear.com/docs/en/datasheet/184123f.pdf; ComponentLink3Description: Package Specification; ComponentLink3URL: http://cds.linear.com/docs/en/packaging/05081610_G_SO8.pdf
footprint LT-S8_N (SOP, 8-Leads, Body 4.9x3.9mm, Pitch 1.27mm, IPC Medium Density)
footprint LT-S8_L (SOP, 8-Leads, Body 4.9x3.9mm, Pitch 1.27mm, IPC High Density)
footprint LT-S8_M (SOP, 8-Leads, Body 4.9x3.9mm, Pitch 1.27mm, IPC Low Density)
pins: 1 OUT A (oc) "Comparator A Open-Drain Output. Output can typically sink greater than 20mA.", 2 V- (power) "Negative Supply.", 3 IN A+ (in) "Noninverting Input of Comparator A. Input common mode range extends from V - to V + - 1.3V. Input current is typically 10pA at 25degreesC.", 4 IN B- (in) "Inverting Input of Comparator B. Input common mode range extends from V - to V + - 1.3V. Input current is typically 10pA at 25degreesC.", 5 HYST "Hysteresis Input. Connect to REF if not used. Input voltage range is from VREF to VREF - 50mV.", 6 REF (out) "Reference Output. 1.182V with respect to V -. Can typically source greater than 1mA and sink 10mA at 25degreesC. Can drive 0.01mF bypass capacitor without oscillation.", 7 V+ (power) "Positive Supply. 2.5V to 11V.", 8 OUT B (oc) "Comparator B Open-Drain Output. Output can typically sink greater than 20mA."

## LTC1843CS8#TRPBF
designator U?
Ultralow Power Comparator with Reference, 2 Channels, 2.5 to 11 V, 0 to +70 degC, 8-pin SOP (S8), Tape and Reel; Generic Part Number: LTC1843; Manufacturer: Linear Technology; PartNumber: LTC1843CS8#TRPBF; Channels (#): 2; Prop Delay (us): 4; Supply Current (uA) Guaranteed: 5.7; Supply Current (uA) Typical: 3.5; Vos (mV) Guaranteed: 10; Vos (mV) Typical: 3; Vs Max (V): 11; PackageReference: S8; PackageDescription: 8-Pin Plastic Small Outline (Narrow .150 Inch), Body 4.9 x 3.9 mm, Pitch 1.27 mm; Supplier 1: Digi-Key; Supplier Part Number 1: LTC1843CS8#TRPBF-ND; Supplier 2: Newark; Supplier Part Number 2: 56M3900; Features: Reference, Comparator; RoHS: Y; Supply Voltage Range: 2.5 to 11 V; Vs Min (V): 2; Mounting Technology: Surface Mount; ComponentLink1Description: Manufacturer URL; ComponentLink1URL: http://www.linear.com/; ComponentLink2Description: Datasheet; ComponentLink2URL: http://cds.linear.com/docs/en/datasheet/184123f.pdf; ComponentLink3Description: Package Specification; ComponentLink3URL: http://cds.linear.com/docs/en/packaging/05081610_G_SO8.pdf
footprint LT-S8_N (SOP, 8-Leads, Body 4.9x3.9mm, Pitch 1.27mm, IPC Medium Density)
footprint LT-S8_L (SOP, 8-Leads, Body 4.9x3.9mm, Pitch 1.27mm, IPC High Density)
footprint LT-S8_M (SOP, 8-Leads, Body 4.9x3.9mm, Pitch 1.27mm, IPC Low Density)
pins: 1 OUT A (oc) "Comparator A Open-Drain Output. Output can typically sink greater than 20mA.", 2 V- (power) "Negative Supply.", 3 IN A+ (in) "Noninverting Input of Comparator A. Input common mode range extends from V - to V + - 1.3V. Input current is typically 10pA at 25degreesC.", 4 IN B- (in) "Inverting Input of Comparator B. Input common mode range extends from V - to V + - 1.3V. Input current is typically 10pA at 25degreesC.", 5 HYST "Hysteresis Input. Connect to REF if not used. Input voltage range is from VREF to VREF - 50mV.", 6 REF (out) "Reference Output. 1.182V with respect to V -. Can typically source greater than 1mA and sink 10mA at 25degreesC. Can drive 0.01mF bypass capacitor without oscillation.", 7 V+ (power) "Positive Supply. 2.5V to 11V.", 8 OUT B (oc) "Comparator B Open-Drain Output. Output can typically sink greater than 20mA."

## LTC1843IS8
designator U?
Ultralow Power Comparator with Reference, 2 Channels, 2.5 to 11 V, -40 to +85 degC, 8-pin SOP (S8); Generic Part Number: LTC1843; Manufacturer: Linear Technology; PartNumber: LTC1843IS8; Channels (#): 2; Prop Delay (us): 4; Supply Current (uA) Guaranteed: 5.7; Supply Current (uA) Typical: 3.5; Vos (mV) Guaranteed: 10; Vos (mV) Typical: 3; Vs Max (V): 11; PackageReference: S8; PackageDescription: 8-Pin Plastic Small Outline (Narrow .150 Inch), Body 4.9 x 3.9 mm, Pitch 1.27 mm; Supplier 1: Digi-Key; Supplier Part Number 1: LTC1843IS8-ND; Supplier 2: Newark; Supplier Part Number 2: 56M3901; Features: Reference, Comparator; RoHS: N; Supply Voltage Range: 2.5 to 11 V; Vs Min (V): 2; Mounting Technology: Surface Mount; ComponentLink1Description: Manufacturer URL; ComponentLink1URL: http://www.linear.com/; ComponentLink2Description: Datasheet; ComponentLink2URL: http://cds.linear.com/docs/en/datasheet/184123f.pdf; ComponentLink3Description: Package Specification; ComponentLink3URL: http://cds.linear.com/docs/en/packaging/05081610_G_SO8.pdf
footprint LT-S8_N (SOP, 8-Leads, Body 4.9x3.9mm, Pitch 1.27mm, IPC Medium Density)
footprint LT-S8_L (SOP, 8-Leads, Body 4.9x3.9mm, Pitch 1.27mm, IPC High Density)
footprint LT-S8_M (SOP, 8-Leads, Body 4.9x3.9mm, Pitch 1.27mm, IPC Low Density)
pins: 1 OUT A (oc) "Comparator A Open-Drain Output. Output can typically sink greater than 20mA.", 2 V- (power) "Negative Supply.", 3 IN A+ (in) "Noninverting Input of Comparator A. Input common mode range extends from V - to V + - 1.3V. Input current is typically 10pA at 25degreesC.", 4 IN B- (in) "Inverting Input of Comparator B. Input common mode range extends from V - to V + - 1.3V. Input current is typically 10pA at 25degreesC.", 5 HYST "Hysteresis Input. Connect to REF if not used. Input voltage range is from VREF to VREF - 50mV.", 6 REF (out) "Reference Output. 1.182V with respect to V -. Can typically source greater than 1mA and sink 10mA at 25degreesC. Can drive 0.01mF bypass capacitor without oscillation.", 7 V+ (power) "Positive Supply. 2.5V to 11V.", 8 OUT B (oc) "Comparator B Open-Drain Output. Output can typically sink greater than 20mA."

## LTC1843IS8#PBF
designator U?
Ultralow Power Comparator with Reference, 2 Channels, 2.5 to 11 V, -40 to +85 degC, 8-pin SOP (S8); Generic Part Number: LTC1843; Manufacturer: Linear Technology; PartNumber: LTC1843IS8#PBF; Channels (#): 2; Prop Delay (us): 4; Supply Current (uA) Guaranteed: 5.7; Supply Current (uA) Typical: 3.5; Vos (mV) Guaranteed: 10; Vos (mV) Typical: 3; Vs Max (V): 11; PackageReference: S8; PackageDescription: 8-Pin Plastic Small Outline (Narrow .150 Inch), Body 4.9 x 3.9 mm, Pitch 1.27 mm; Supplier 1: Digi-Key; Supplier Part Number 1: LTC1843IS8#PBF-ND; Supplier 2: Newark; Supplier Part Number 2: 56M3902; Features: Reference, Comparator; RoHS: Y; Supply Voltage Range: 2.5 to 11 V; Vs Min (V): 2; Mounting Technology: Surface Mount; ComponentLink1Description: Manufacturer URL; ComponentLink1URL: http://www.linear.com/; ComponentLink2Description: Datasheet; ComponentLink2URL: http://cds.linear.com/docs/en/datasheet/184123f.pdf; ComponentLink3Description: Package Specification; ComponentLink3URL: http://cds.linear.com/docs/en/packaging/05081610_G_SO8.pdf
footprint LT-S8_N (SOP, 8-Leads, Body 4.9x3.9mm, Pitch 1.27mm, IPC Medium Density)
footprint LT-S8_L (SOP, 8-Leads, Body 4.9x3.9mm, Pitch 1.27mm, IPC High Density)
footprint LT-S8_M (SOP, 8-Leads, Body 4.9x3.9mm, Pitch 1.27mm, IPC Low Density)
pins: 1 OUT A (oc) "Comparator A Open-Drain Output. Output can typically sink greater than 20mA.", 2 V- (power) "Negative Supply.", 3 IN A+ (in) "Noninverting Input of Comparator A. Input common mode range extends from V - to V + - 1.3V. Input current is typically 10pA at 25degreesC.", 4 IN B- (in) "Inverting Input of Comparator B. Input common mode range extends from V - to V + - 1.3V. Input current is typically 10pA at 25degreesC.", 5 HYST "Hysteresis Input. Connect to REF if not used. Input voltage range is from VREF to VREF - 50mV.", 6 REF (out) "Reference Output. 1.182V with respect to V -. Can typically source greater than 1mA and sink 10mA at 25degreesC. Can drive 0.01mF bypass capacitor without oscillation.", 7 V+ (power) "Positive Supply. 2.5V to 11V.", 8 OUT B (oc) "Comparator B Open-Drain Output. Output can typically sink greater than 20mA."